# EAGLE library part DS2482-100 (library Puffin)
DS2482-100 I2C-to-1-Wire® bridge device
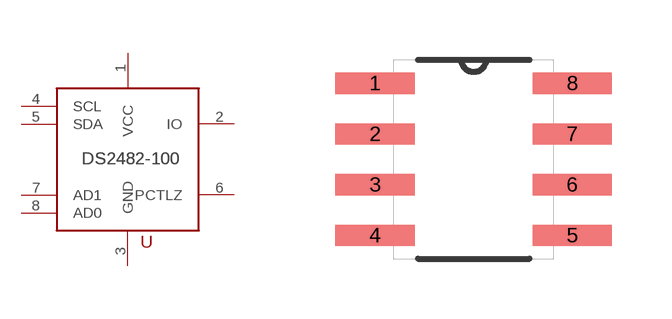
[diagram p0: symbol with the pads of SOIC8; footprint SOIC8]

Designator prefix -

## DS2482-100  [SOIC8]
1  VCC
2  IO
3  GND
4  SCL
5  SDA
6  PCTLZ
7  AD1
8  AD0

## Footprint SOIC8 (pad centres in mm)
smd 1.981 x 0.533: 1 -2.464,1.905; 2 -2.464,0.635; 3 -2.464,-0.635; 4 -2.464,-1.905; 5 2.464,-1.905; 6 2.464,-0.635; 7 2.464,0.635; 8 2.464,1.905